# Altium footprint library modulo_extension_pcblib.PcbLib: 3 footprints
Each footprint in its own frame and in the unit in brackets; x right, y up, seen from the top. Pads: shape width x height; smd on the part's side, far side on the other; paste and mask are expansions set on the pad; w line width, h text height; cw(c..) or ccw(c..) is an arc to the next point about the centre after c.
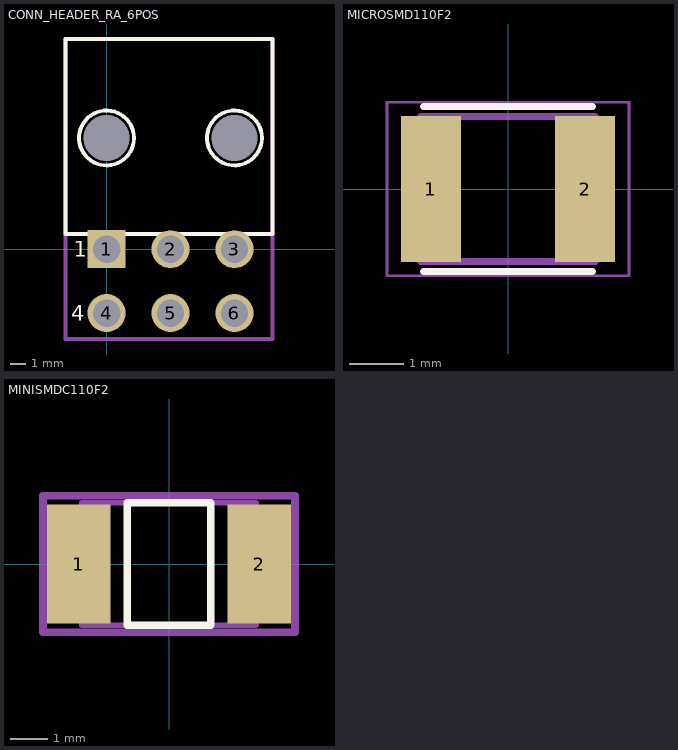
[diagram p0: the footprints below, top view; thin cyan lines are the x and y axes]

## CONN_HEADER_RA_6POS [mm]
pads (8):
  rect 2.5x2.5 hole 1.8: 1(0,0)
  round 2.5 hole 1.8: 2(4.2,0) 3(8.4,0) 4(0,-4.2) 5(4.2,-4.2) 6(8.4,-4.2)
  round 0 hole 3: ""(0,7.3) ""(8.4,7.3)
Top Overlay:
  circle w0.254: c0,7.3 r1.803
  circle w0.254: c8.4,7.3 r1.803
  lines w0.254: -2.7,1 -2.7,7.3 -2.7,13.8 10.9,13.8 10.9,1 -2.7,1
  text "1" at -2.146,-0.5 h1
  text "4" at -2.313,-4.7 h1
Mechanical 13 (Mech13):
  lines w0.254: -2.7,-5.9 10.9,-5.9 10.9,13.8 -2.7,13.8 -2.7,7.3 -2.7,-5.9
3D body "45558-0003.stp": height 11.45, standoff -3.56, extent -3.1,-4.735 11.1,13.9

## MICROSMD110F2 [mm]
pads (2):
  rect 1.1x2.67 smd: 1(-1.415,0) 2(1.415,0)
Top Overlay:
  lines w0.127: -1.55,-1.515 1.55,-1.515 ; -1.55,1.515 1.55,1.515
Mechanical 1:
  lines w0.127: -1.6,-1.33 -1.6,1.33 ; -1.6,-1.33 -1.6,1.33 ; -1.6,-1.33 1.6,-1.33 ; -1.6,-1.33 1.6,-1.33 ; -1.6,1.33 1.6,1.33 ; -1.6,1.33 1.6,1.33 ; 1.6,-1.33 1.6,1.33 ; 1.6,-1.33 1.6,1.33
Mechanical 13 (Mech13):
  lines w0.05: -2.22,-1.59 -2.22,1.59 2.22,1.59 2.22,-1.59 -2.22,-1.59
3D body "User Library-Polyswitch_micro.STEP": height 0.5, standoff 0, extent -1.72,-1.4 1.72,1.4

## MINISMDC110F2 [mm]
pads (2):
  rect 1.68x3.15 smd paste+0 mask+0: 1(-2.39,0) 2(2.39,0)
Top Overlay:
  lines w0.2: -1.1,-1.62 1.1,-1.62 1.1,1.62 -1.1,1.62 -1.1,-1.62
Mechanical 1:
  lines w0.15: -2.3,-1.62 -2.3,1.62 2.3,1.62 2.3,-1.62 -2.3,-1.62
Mechanical 13 (Mech13):
  lines w0.2: -3.33,-1.805 -3.33,1.805 3.33,1.805 3.33,-1.805 -3.33,-1.805
3D body "MINISMDC110F2.STEP": height 0.49, standoff -0.01, extent -2.375,-1.715 2.375,1.715